# Altium footprint library IND.PcbLib: 20 footprints (part 2 of 2)
Each footprint in its own frame and in the unit in brackets; x right, y up, seen from the top. Pads: shape width x height; smd on the part's side, far side on the other; paste and mask are expansions set on the pad; w line width, h text height; cw(c..) or ccw(c..) is an arc to the next point about the centre after c.
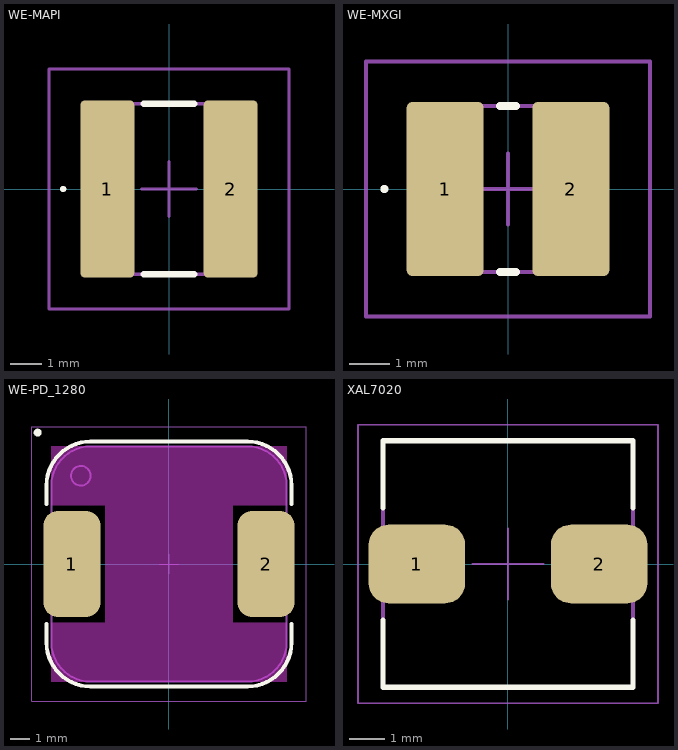
[diagram p1: the footprints below, top view; thin cyan lines are the x and y axes]

## WE-MAPI [mm]
pads (2):
  rrect15% 1.7x5.6 smd: 1(-1.95,0) 2(1.95,0)
Top Overlay:
  lines w0.1: -3.4,0 ccw(c-3.35,0) -3.3,0 ccw(c-3.35,0) -3.4,0
  lines w0.2: -0.8,-2.7 0.8,-2.7 ; -0.8,2.7 0.8,2.7
Top Assembly:
  circle w0.1: c-2.125,1.975 r0.225
  lines w0.1: -2.7,-2.7 2.7,-2.7 2.7,2.7 -2.7,2.7 -2.7,-2.7
  text ".Designator" at -2.252,-0.226 h1
Top Courtyard:
  lines w0.1: -0.875,0 0,0 ; 0,-0.875 0,0 ; 0,0.875 0,0 ; 0.875,0 0,0 ; -3.8,-3.8 3.8,-3.8 3.8,3.8 -3.8,3.8 -3.8,-3.8
3D body "74438367100.stp": height 3.1, standoff 0, extent -2.7,-2.7 2.7,2.7

## WE-MXGI [mm]
pads (2):
  rrect15% 1.9x4.3 smd: 1(-1.55,0) 2(1.55,0)
Top Overlay:
  lines w0.1: -3.1,0 ccw(c-3.05,0) -3,0 ccw(c-3.05,0) -3.1,0
  lines w0.2: -0.2,-2.05 0.2,-2.05 ; -0.2,2.05 0.2,2.05
Top Assembly:
  circle w0.1: c-1.575,1.525 r0.202
  lines w0.1: -2.05,-2.05 -2.05,2.05 2.05,2.05 2.05,-2.05 -2.05,-2.05
  text ".Designator" at -2.252,-0.226 h1
Top Courtyard:
  lines w0.1: -0.875,0 0,0 ; 0,-0.875 0,0 ; 0,0.875 0,0 ; 0.875,0 0,0 ; -3.5,-3.15 -3.5,3.15 3.5,3.15 3.5,-3.15 -3.5,-3.15
3D body "7443844020047.stp": height 2.1, standoff 0, extent -2.05,-2.05 2.05,2.05

## WE-PD_1280 [mm] "SMT Shielded Power Inductor, 2-leads, body 12x12mm"
height 8
pads (2):
  rrect50% 2.9x5.4 smd: 1(-4.95,0) 2(4.95,0)
Top Layer keep-out:
  region: 6,6 6,3 3.25,3 3.25,-3 6,-3 6,-6 -6,-6 -6,-3 -3.25,-3 -3.25,3 -6,3 -6,6
Top Overlay:
  circle w0.2: c-6.7,6.7 r0.1
  lines w0.2: -6.25,-3.05 -6.25,-4 ccw(c-4,-4) -4,-6.25 4,-6.25 ccw(c4,-4) 6.25,-4 6.25,-3.05 ; -6.25,3.05 -6.25,4 cw(c-4,4) -4,6.25 4,6.25 cw(c4,4) 6.25,4 6.25,3.05
Top Assembly:
  circle w0.1: c-4.5,4.5 r0.5
  lines w0.1: -6,-4 ccw(c-4,-4) -4,-6 4,-6 ccw(c4,-4) 6,-4 6,4 ccw(c4,4) 4,6 -4,6 ccw(c-4,4) -6,4 -6,-4
  text ".Designator" at -3.378,-0.339 h1.5
Top Courtyard:
  lines w0.05: -0.5,0 0.5,0 ; 0,-0.5 0,0.5 ; -7,-7 -7,7 7,7 7,-7 -7,-7
3D body "WE-PD_1280_m-base_744770xxx.stp": height 7.51, standoff 0.05, extent -6,-6 6,6

## XAL7020 [mm]
pads (2):
  rrect50% 2.7x2.2 smd: 1(-2.55,0) 2(2.55,0)
Top Overlay:
  lines w0.15: -3.5,-1.567 -3.5,-3.45 3.5,-3.45 3.5,-1.567 ; -3.5,1.567 -3.5,3.45 3.5,3.45 3.5,1.567
Top Assembly:
  lines w0.12: -3.5,-3.45 -3.5,3.45 3.5,3.45 3.5,-3.45 -3.5,-3.45
  text ".Designator" at -2.704,-0.271 h1.2
Top Courtyard:
  lines w0.05: -1,0 1,0 ; 0,-1 0,1 ; -4.2,-3.9 4.2,-3.9 4.2,3.9 -4.2,3.9 -4.2,-3.9
3D body: height 4.8, standoff 0, extent -3.5,-3.45 3.5,3.45